# Altium footprint library S4B-PH-K-S.PcbLib: 1 footprints
Each footprint in its own frame and in the unit in brackets; x right, y up, seen from the top. Pads: shape width x height; smd on the part's side, far side on the other; paste and mask are expansions set on the pad; w line width, h text height; cw(c..) or ccw(c..) is an arc to the next point about the centre after c.
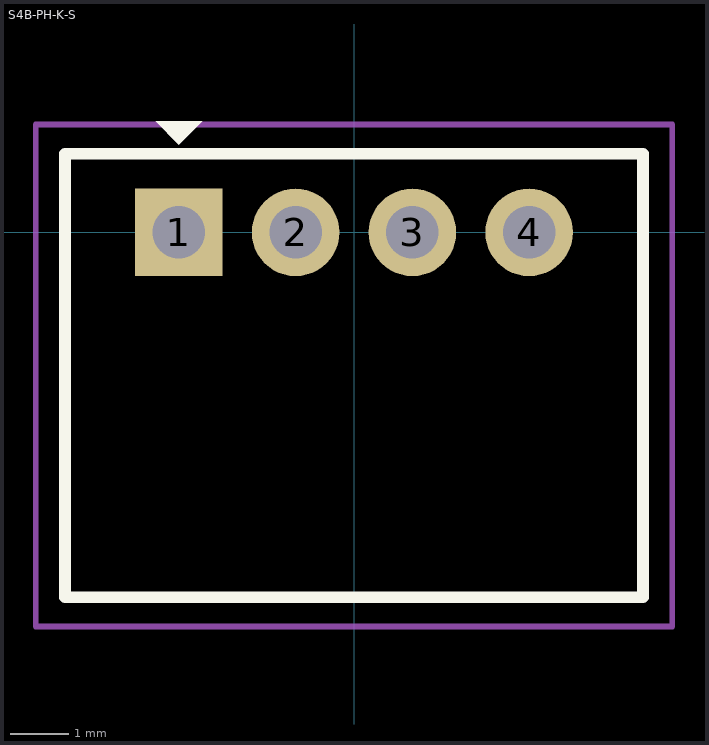
[diagram p0: the footprint, top view; thin cyan lines are the x and y axes]

## S4B-PH-K-S [mm]
pads (4):
  rect 1.5x1.5 hole 0.9: 1(-3,0)
  round 1.5 hole 0.9: 2(-1,0) 3(1,0) 4(3,0)
Top Overlay:
  region: -3.4,1.9 -2.6,1.9 -3,1.5
  lines w0.2: -4.95,-6.25 4.95,-6.25 4.95,1.35 -4.95,1.35 -4.95,-6.25
Top Courtyard:
  lines w0.1: -5.45,-6.75 -5.45,1.85 5.45,1.85 5.45,-6.75 -4.95,-6.75 -5.45,-6.75
3D body "S4B-PH-K-S.STEP": height 4.8, standoff -3.4, extent -4.95,-6.25 4.95,1.35